# EAGLE library part MINIM-OSD (library custom-parts)
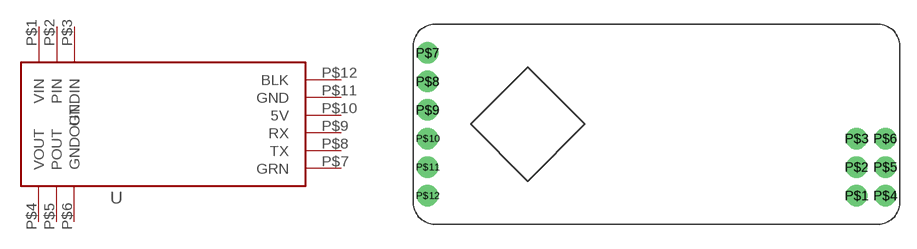
[diagram p0: symbol with the pads of MINIM-OSD; footprint MINIM-OSD]

Designator prefix -

## MINIM-OSD  [MINIM-OSD]
P$1  VIN
P$2  PIN
P$3  GNDIN
P$4  VOUT
P$5  POUT
P$6  GNDOUT
P$7  GRN
P$8  TX
P$9  RX
P$10  5V
P$11  GND
P$12  BLK

## Footprint MINIM-OSD (pad centres in mm)
drill 1.016 pad 1.905: P$1 39.37,2.54; P$2 39.37,5.08; P$3 39.37,7.62; P$4 41.91,2.54; P$5 41.91,5.08; P$6 41.91,7.62; P$7 1.27,15.24; P$8 1.27,12.7; P$9 1.27,10.16; P$10 1.27,7.62; P$11 1.27,5.08; P$12 1.27,2.54